# Altium footprint library E2S_E2S_034_V1_BLE_Gateway.PcbLib: 8 footprints
Each footprint in its own frame and in the unit in brackets; x right, y up, seen from the top. Pads: shape width x height; smd on the part's side, far side on the other; paste and mask are expansions set on the pad; w line width, h text height; cw(c..) or ccw(c..) is an arc to the next point about the centre after c.
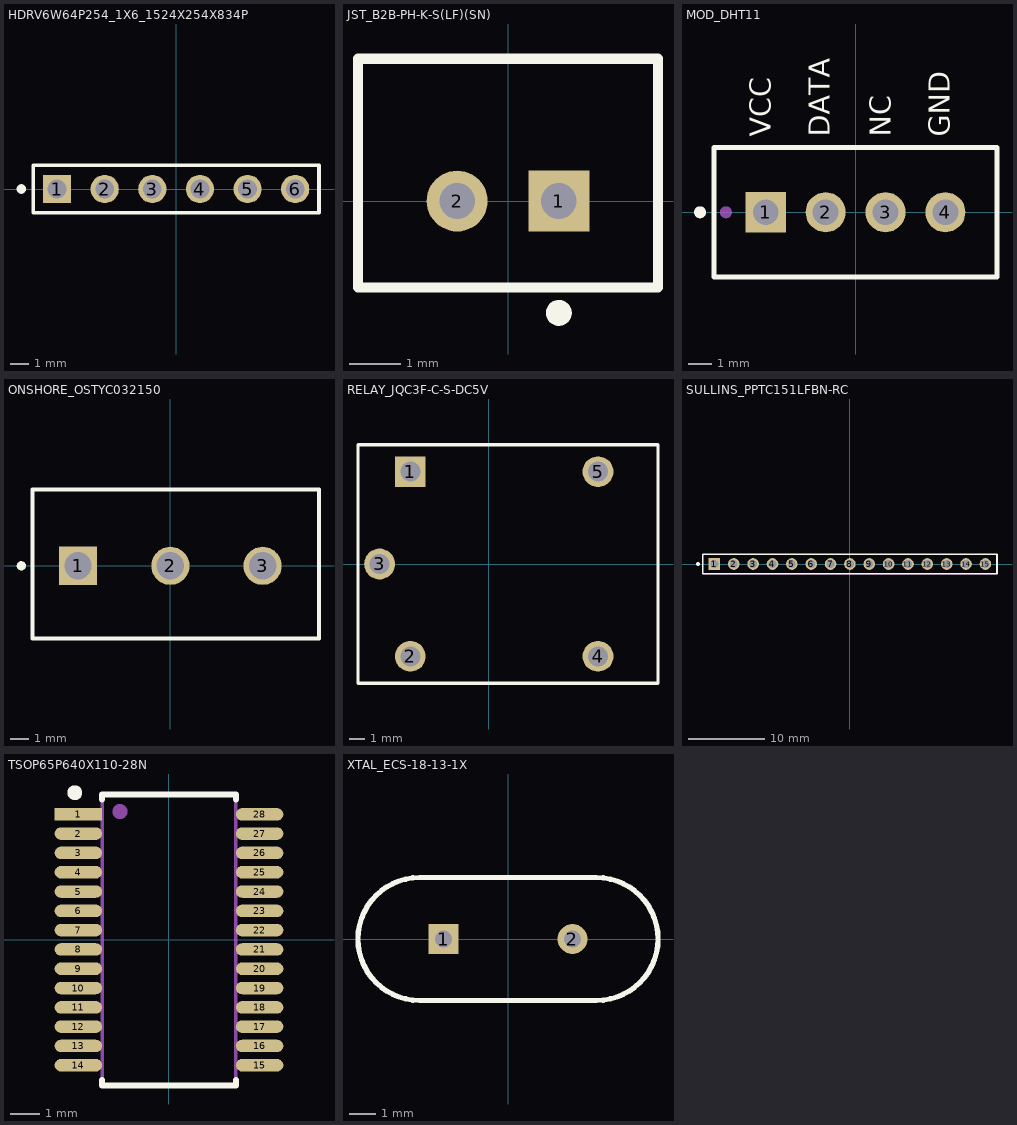
[diagram p0: the footprints below, top view; thin cyan lines are the x and y axes]

## HDRV6W64P254_1X6_1524X254X834P [mm] "CONN HEADER VERT 6POS 2.54MM"
height 8.34
pads (6):
  rect 1.508x1.508 hole 1: 1(-6.35,0)
  round 1.508 hole 1: 2(-3.81,0) 3(-1.27,0) 4(1.27,0) 5(3.81,0) 6(6.35,0)
Top Overlay:
  circle w0.254: c-8.255,0 r0.127
  lines w0.203: -7.62,-1.27 -7.62,1.27 7.62,1.27 7.62,-1.27 -7.62,-1.27
Mechanical 1:
  text ".Designator" at 0,0 h1.27
Mechanical 15:
  circle w0.254: c-6.35,0 r0.127
  lines w0.127: -7.62,-1.27 -7.62,1.27 7.62,1.27 7.62,-1.27 -7.62,-1.27
3D body "PREC006SAAN-RC.STEP": height 8.39, standoff -3.04, extent -7.62,-1.27 7.62,1.27

## JST_B2B-PH-K-S(LF)(SN) [mm] "CONN HEADER PH SIDE 2POS 2MM"
height 6
pads (2):
  rect 1.2x1.2 hole 0.7 mask+0.076: 1(1,0)
  round 1.2 hole 0.7 mask+0.076: 2(-1,0)
Top Overlay:
  circle w0.254: c1,-2.2 r0.127
  lines w0.203: -2.95,-1.7 2.95,-1.7 2.95,2.8 -2.95,2.8 -2.95,-1.7
Mechanical 1:
  text ".Designator" at 0,0 h1.02
Mechanical 15:
  circle w0.254: c1,0 r0.127
  lines w0.127: -2.95,-1.7 -2.95,2.8 2.95,2.8 2.95,-1.7 -2.95,-1.7
3D body "B2B-PH-K-S(LF)(SN)--3DModel-STEP-56544.STEP": height 6.1, standoff -3.3, extent -2.954,-1.702 2.946,2.798

## MOD_DHT11 [mm] "Temperature and Humidity sensor"
height 15.5
pads (4):
  rect 1.7x1.7 hole 1.1: 1(-3.81,0)
  round 1.7 hole 1.1: 2(-1.27,0) 3(1.27,0) 4(3.81,0)
Top Overlay:
  circle w0.254: c-6.6,0 r0.127
  lines w0.203: -6,-2.75 6,-2.75 6,2.75 -6,2.75 -6,-2.75
  text "VCC" at -3.3,3.2 h1.52
  text "DATA" at -0.8,3.2 h1.52
  text "NC" at 1.8,3.2 h1.52
  text "GND" at 4.3,3.2 h1.52
Mechanical 1:
  text ".Designator" at 0,0 h1.27
Mechanical 15:
  circle w0.254: c-5.5,0 r0.127
  lines w0.127: -6,-2.75 6,-2.75 6,2.75 -6,2.75 -6,-2.75
  text "VCC" at -3.3,-1.4 h1.52
  text "DATA" at -0.8,-1.7 h1.52
  text "NC" at 1.8,-0.8 h1.52
  text "GND" at 4.3,-1.4 h1.52
3D body "DHT11.SLDPRT": height 15.51, standoff -7.99, extent -6,-2.75 6,2.75

## ONSHORE_OSTYC032150 [mm] "TERM BLK 3P SIDE ENT 5.08MM PCB"
height 10
pads (3):
  rect 2.1x2.1 hole 1.5: 1(-5.08,0)
  round 2.1 hole 1.5: 2(0,0) 3(5.08,0)
Top Overlay:
  circle w0.254: c-8.2,0 r0.127
  lines w0.203: -7.58,-4 -7.58,4.2 8.18,4.2 8.18,-4 -7.58,-4
Mechanical 1:
  text ".Designator" at 0,0.3 h1.27
Mechanical 15:
  circle w0.254: c-5.08,0 r0.127
  lines w0.127: -7.58,-4 -7.58,4.2 8.18,4.2 8.18,-4 -7.58,-4
3D body "OSTYC032150.stp": height 10.01, standoff -3.49, extent -7.58,-4 7.66,4.2

## RELAY_JQC3F-C-S-DC5V [mm] "RELAY SPDT"
height 15.5
pads (5):
  rect 2x2 hole 1.3: 1(-5.1,6)
  round 2 hole 1.3: 2(-5.1,-6) 3(-7.1,0) 4(7.1,-6) 5(7.1,6)
Top Overlay:
  lines w0.203: -8.5,-7.75 -8.5,7.75 11,7.75 11,-7.75 -8.5,-7.75
Mechanical 1:
  text ".Designator" at 0,0 h1.27
Mechanical 15:
  lines w0.127: -8.5,-7.75 -8.5,7.75 11,7.75 11,-7.75 -8.5,-7.75
3D body: height 15.5, standoff 0, extent -8.5,-7.75 -8.5,-7.75
3D body: height 15.5, standoff 0, extent -8.5,-7.75 11,7.75

## SULLINS_PPTC151LFBN-RC [mm] "CONN HDR 15POS 0.1 TIN PCB"
height 8.5
pads (15):
  rect 1.528x1.528 hole 1.02: 1(-17.78,0)
  round 1.528 hole 1.02: 2(-15.24,0) 3(-12.7,0) 4(-10.16,0) 5(-7.62,0) 6(-5.08,0) 7(-2.54,0) 8(0,0) 9(2.54,0) 10(5.08,0) 11(7.62,0) 12(10.16,0) 13(12.7,0) 14(15.24,0) 15(17.78,0)
Top Overlay:
  circle w0.254: c-19.939,0 r0.127
  lines w0.203: -19.3,-1.27 19.3,-1.27 19.3,1.27 -19.3,1.27 -19.3,-1.27
Mechanical 1:
  text ".Designator" at 0,0 h1.27
Mechanical 15:
  circle w0.254: c-17.78,0 r0.127
  lines w0.127: -19.3,-1.27 19.3,-1.27 19.3,1.27 -19.3,1.27 -19.3,-1.27
3D body "_ _ _C151LFBN-RC.STEP": height 8.51, standoff -3.19, extent -19.3,-1.27 19.3,1.27

## TSOP65P640X110-28N [mm] "TSOP, 28-Leads, Body 9.70x4.40mm, Pitch 0.65mm, IPC Medium Density"
height 1.1
pads (28):
  rect 1.6x0.42 smd mask+0.076: 1(-3.05,4.225)
  oval 1.6x0.42 smd mask+0.076: 2(-3.05,3.575) 3(-3.05,2.925) 4(-3.05,2.275) 5(-3.05,1.625) 6(-3.05,0.975) 7(-3.05,0.325) 8(-3.05,-0.325) 9(-3.05,-0.975) 10(-3.05,-1.625) 11(-3.05,-2.275) 12(-3.05,-2.925) 13(-3.05,-3.575) 14(-3.05,-4.225) 15(3.05,-4.225) 16(3.05,-3.575) 17(3.05,-2.925) 18(3.05,-2.275) 19(3.05,-1.625) 20(3.05,-0.975) 21(3.05,-0.325) 22(3.05,0.325) 23(3.05,0.975) 24(3.05,1.625) 25(3.05,2.275) 26(3.05,2.925) 27(3.05,3.575) 28(3.05,4.225)
Top Overlay:
  circle w0.25: c-3.175,4.953 r0.125
  lines w0.203: -2.25,-4.725 -2.25,-4.9 2.25,-4.9 2.25,-4.725 ; -2.25,4.725 -2.25,4.9 2.25,4.9 2.25,4.725
Mechanical 1:
  text ".Designator" at 0,0 h1.52
Mechanical 15:
  circle w0.254: c-1.651,4.318 r0.127
  lines w0.127: -2.25,-4.9 -2.25,4.9 2.25,4.9 2.25,-4.9 -2.25,-4.9
3D body "TSOP65P640X110-28N.step": height 1.1, standoff 0, extent -3.2,-4.9 3.2,4.9

## XTAL_ECS-18-13-1X [mm] "CRYSTAL 1.8432MHZ 13PF TH"
height 13.46
pads (2):
  rect 1.13x1.13 hole 0.63: 1(-2.44,0)
  round 1.13 hole 0.63: 2(2.44,0)
Top Overlay:
  lines w0.203: -3.35,-2.325 cw(c-3.35,0) -3.35,2.325 3.35,2.325 cw(c3.35,0) 3.35,-2.325 -3.35,-2.325
Mechanical 1:
  text ".Designator" at 0,0 h1.52
Mechanical 15:
  lines w0.127: -3.35,-2.325 cw(c-3.35,0) -3.35,2.325 3.35,2.325 cw(c3.35,0) 3.35,-2.325 -3.35,-2.325
3D body: height 4.24, standoff -1.3, extent 0,0 0,2.44
3D body: height 4.24, standoff -1.3, extent 0,2.44 0,2.44
3D body: height 13.46, standoff 0, extent -5.675,-2.325 5.675,2.325